# Altium schematic symbol library Fomu-Programmer.SchLib: 16 symbols
Pins are listed as number, name and electrical type; pins without a type are passive.

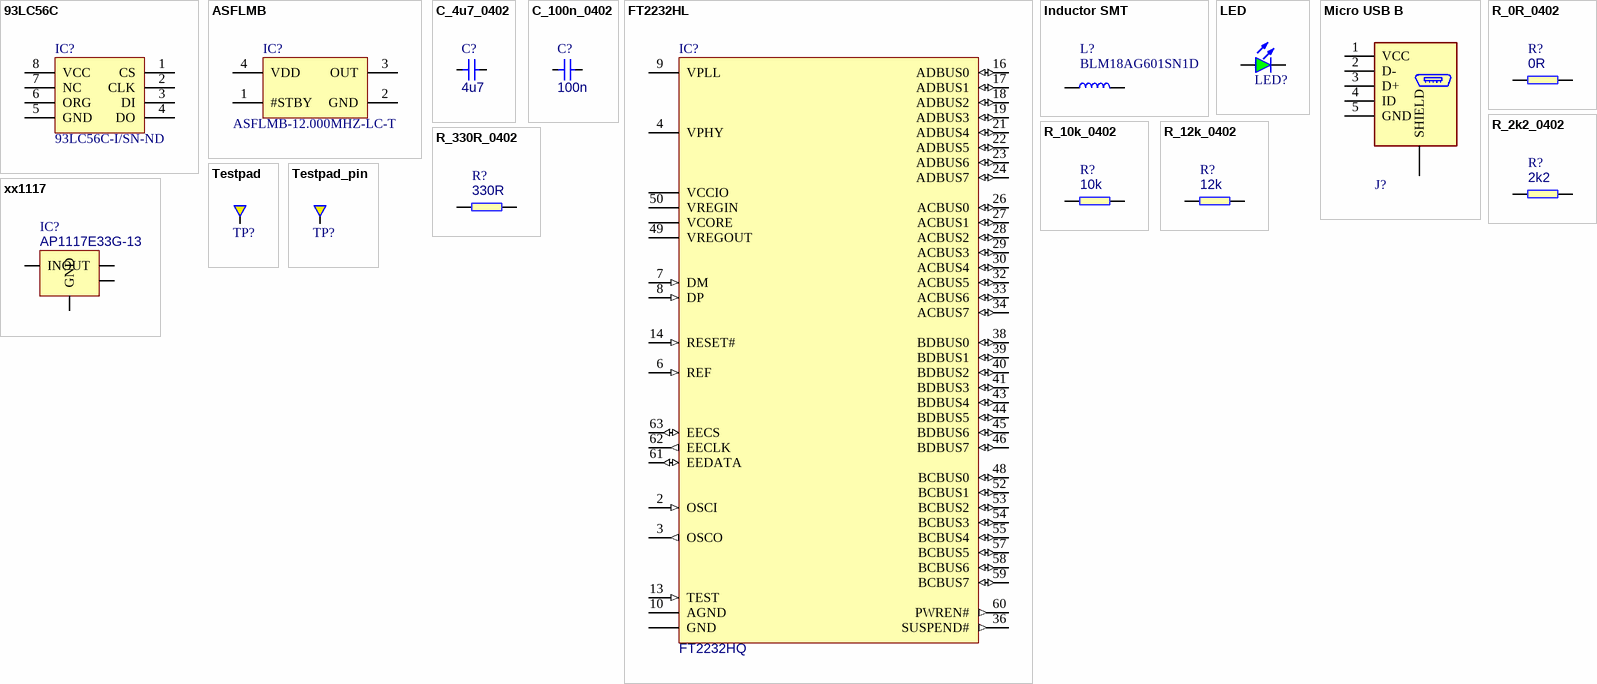
[diagram p0: symbols 93LC56C to xx1117]

## 93LC56C
designator IC?, comment 93LC56C-I/SN-ND
EEPROM SERIAL 1K, SMD, 93C46, SOIC8; Manufacturer: Microchip Technology; PartNumber: 93LC56C; Value: 93LC56C-I/SN-ND; PartSymbol: 93LC56C-I/SN-ND
footprint SOIC-8
pins: 1 CS, 2 CLK, 3 DI, 4 DO, 5 GND, 6 ORG, 7 NC, 8 VCC

## ASFLMB
designator IC?, comment ASFLMB-12.000MHZ-LC-T
MEMS Oscillator, Ultra-miniature, 12 MHz, SMD, 5mm x 3.2mm, 50 ppm, 3.3 V; Manufacturer: Abracon LLC; PartNumber: ASFLMB-12.000MHZ-LC-T; Value: ASFLMB-12.000MHZ-LC-T; PartSymbol: ASFLMB-12.000MHZ-LC-T
footprint ASFLMB
pins: 1 #STBY, 2 GND, 3 OUT, 4 VDD

## C_4u7_0402
designator C?, comment 4u7
MLCC SMT Capacitor 100nF 0402; PartNumber: C_4u7_0402; Manufacturer: TDK; PartSymbol: C1005X5R0J475M050BC; Value: 4u7
footprint 0402
pins: 1, 2
1 alternate drawing of the same symbol

## C_100n_0402
designator C?, comment 100n
MLCC SMT Capacitor 100nF 0402; PartNumber: C_100n_0402; Manufacturer: AVX; PartSymbol: 0402YC104KAT2A; Value: 100n
footprint 0402
pins: 1, 2
1 alternate drawing of the same symbol

## FT2232HL
designator IC?, comment FT2232HQ
Dual USB-UART/FIFO; Manufacturer: FTDI; Value: FT2232HQ; PartSymbol: FT2232HQ; PartNumber: FT2232HQ
footprint FT2232HQ
pins: 2 OSCI (in), 3 OSCO (out), 4 VPHY (power), 6 REF (in), 7 DM (in), 8 DP (in), 9 VPLL (power), 10 AGND (power), 13 TEST (in), 14 RESET# (in), 16 ADBUS0 (io), 17 ADBUS1 (io), 18 ADBUS2 (io), 19 ADBUS3 (io), 21 ADBUS4 (io), 22 ADBUS5 (io), 23 ADBUS6 (io), 24 ADBUS7 (io), 26 ACBUS0 (io), 27 ACBUS1 (io), 28 ACBUS2 (io), 29 ACBUS3 (io), 30 ACBUS4 (io), 32 ACBUS5 (io), 33 ACBUS6 (io), 34 ACBUS7 (io), 36 SUSPEND# (out), 38 BDBUS0 (io), 39 BDBUS1 (io), 40 BDBUS2 (io), 41 BDBUS3 (io), 43 BDBUS4 (io), 44 BDBUS5 (io), 45 BDBUS6 (io), 46 BDBUS7 (io), 48 BCBUS0 (io), 49 VREGOUT (power), 50 VREGIN (power), 52 BCBUS1 (io), 53 BCBUS2 (io), 54 BCBUS3 (io), 55 BCBUS4 (io), 57 BCBUS5 (io), 58 BCBUS6 (io), 59 BCBUS7 (io), 60 PWREN# (out), 61 EEDATA (io), 62 EECLK (out), 63 EECS (io), GND (power), VCCIO (power), VCORE (power)

## Inductor SMT
designator L?, comment BLM18AG601SN1D
Ferrite Bead, 600 ohm, 0603 [1608 Metric], BLM18A Series, 500 mA, 0.38 ohm, ? 25%; Manufacturer: MURATA; PartNumber: BLM18AG601SN1D; Value: BLM18AG601SN1D; PartSymbol: BLM18AG601SN1D
footprint 0603
pins: 1, 2

## LED
designator LED?, comment KPT-1608SGC  (value not drawn)
LED Green 0603 case; PartNumber: LED_G; Manufacturer: KINGBRIGHT; Value: KPT-1608SGC; PartSymbol: KPT-1608SGC
footprint LED0603
pins: A, K

## Micro USB B
designator J?, comment Molex 47346-0001  (value not drawn)
USB - micro B Receptacle Connector 5 Position Surface Mount, Right Angle, Horizontal; PartNumber: CON-Molex-47346-0001; Value: Molex 47346-0001; Manufacturer: Molex; PartSymbol: 47346-0001
footprint CON-Molex-047346-0001
pins: 1 VCC (power), 2 D-, 3 D+, 4 ID, 5 GND (power), S SHIELD

## R_0R_0402
designator R?, comment 0R
SMT Resistor 0402; PartNumber: R_0R_0402; Manufacturer: Vishay; PartSymbol: CRCW04020000Z0ED; Value: 0R
footprint 0402
pins: 1, 2

## R_2k2_0402
designator R?, comment 2k2
SMT Resistor 0402; PartNumber: R_2k2_0402; Manufacturer: Vishay; PartSymbol: CRCW04022K20FKED; Value: 2k2
footprint 0402
pins: 1, 2

## R_10k_0402
designator R?, comment 10k
SMT Resistor 0402; PartNumber: R_10k_0402; Manufacturer: Vishay; PartSymbol: CRCW040210K0FKED; Value: 10k
footprint 0402
pins: 1, 2

## R_12k_0402
designator R?, comment 12k
SMT Resistor 0402; PartNumber: R_12k_0402; Manufacturer: Multicomp; PartSymbol: MCWR04X1202FTL; Value: 12k
footprint 0402
pins: 1, 2

## R_330R_0402
designator R?, comment 330R
SMT Resistor 0402; PartNumber: R_330R_0402; Manufacturer: Multicomp; PartSymbol: MCMR04X3300FTL; Value: 330R
footprint 0402
pins: 1, 2

## Testpad
designator TP?  (value not drawn)  (no BOM)
Testpad, round, 1.5mm; PartNumber: TP-R-1.5
footprint TP-R-1.5
pins: 1

## Testpad_pin
designator TP?
Testpad, round, 1.8mm; PartNumber: P70-2300045R; Manufacturer: Harwin; PartSymbol: P70-2300045R
footprint TP-R-1.5-THT
pins: 1

## xx1117
designator IC?, comment AP1117E33G-13
IC, LDO, REG, 3.3V, SOT223; Manufacturer: DIODES INC.; PartNumber: AP1117E33G-13; PartSymbol: AP1117E33G-13; Value: AP1117E33G-13
footprint SOT223
pins: 1 GND (power), 2 OUT, 3 IN (power), 4 OUT